# Altium schematic symbol library MMT_Diodes_LEDs.SchLib: 29 symbols
Pins are listed as number, name and electrical type; pins without a type are passive.

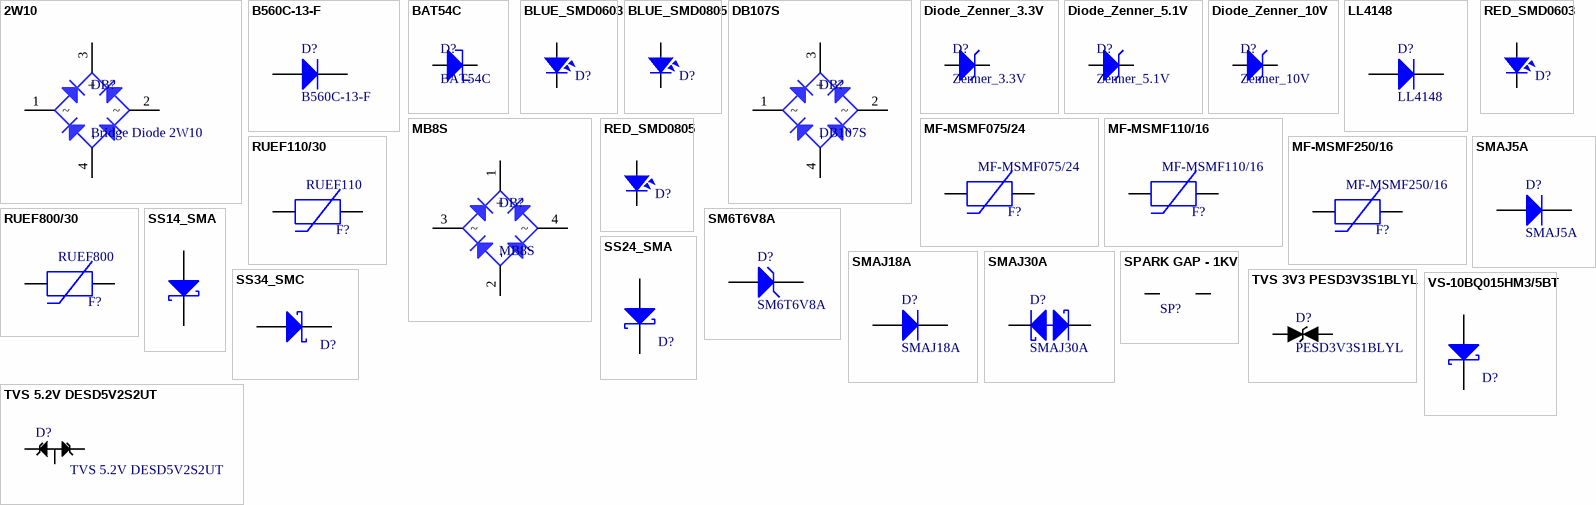
[diagram p0: symbols 2W10 to VS-10BQ015HM3/5BT]

## 2W10
designator DB?, comment Bridge Diode 2W10
Bridge Rectifiers 2A 1000V; Manufacturer: Vishay Semiconductors; Part Number: 2W10G-E4/51; Ex Price: 0.64; VN Price: 1500; Voltage/Wattage: 1000V/2A; Ex Supplier: https://www.mouser.vn/ProductDetail/Vishay-Semiconductors/2W10G-E4-51?qs=%2Fha2pyFaduiJYfkAZORi5oTk8tDZgDF1yZg%252BKYpe58k%3D; VN Supplier: https://thegioiic.com/products/2w10-cau-chinh-luu-1kv-2a
footprint 2W10
pins: 1 ~, 2 ~, 3 +, 4 -

## B560C-13-F
designator D?
Schottky Diodes & Rectifiers 60V 5A; Manufacturer: Diodes Incorporated; Ex Price: 0.55; VN Price: 5700; Voltage/Wattage: 60V/5A; Ex Supplier: https://www.mouser.vn/ProductDetail/Diodes-Incorporated/B560C-13-F?qs=OC0R%252Bhozcm%252BAsjMXklZLIw%3D%3D; VN Supplier: https://www.thegioiic.com/products/b560c-13-f-diode-schottky-5a; Part Number: B560C-13-F; Package: DO-214AB (SMC-2)
footprint DO214AB SMC (Molded Diode, 2-Leads, Body 6.85x5.90mm, IPC Medium Density)
pins: 1 A, 2 K

## BAT54C
designator D?
Schottky Diodes & Rectifiers 30V 225mW Dual Common Cathode; Manufacturer: ON Semiconductor; Part Number: BAT54CLT1G; Ex Price: 0.14; VN Price: 390; Package: SOT23-3; Ex Supplier: https://www.mouser.vn/ProductDetail/ON-Semiconductor/BAT54CLT1G?qs=sGAEpiMZZMtqO%252BWUGLBzeBLV%2FtYehzLj; VN Supplier: https://thegioiic.com/products/bat54c; Voltage/Wattage: 30V
footprint SOT23A (SOT 23A)
pins: 1, 3

## BLUE_SMD0603
designator D?, comment LED BLUE  (value not drawn)
SMD-0603 High Bright Blue Chip LED; Manufacturer: Wurth Electronics; Part Number: 150060BS75000; VN Price: 290; Value: LED BLUE 0603; Voltage/Wattage: 3.2V/20mA; Ex Price: 0.121; VN Supplier: https://thegioiic.com/products/led-xanh-duong-0603; Ex Supplier: https://www.mouser.vn/ProductDetail/Wurth-Electronics/150060BS75000?qs=sGAEpiMZZMseGfSY3csMkQ6oANueNQcInIthPVspADuLdbLnfDbXoQ%3D%3D; Package: 0603 (1608 metric)
footprint LED_SM_0603_Blue (Chip LED, 2-Leads, Body 1.6x0.8mm, IPC Medium Density)
pins: 1, 2

## BLUE_SMD0805
designator D?, comment LED BLUE  (value not drawn)
SMD-0805 High Bright Blue Chip LED; Manufacturer: Wurth Electronics; Part Number: 150080BS75000; VN Price: 230; Value: LED BLUE 0805; Voltage/Wattage: 2V/20mA; Ex Price: 0.14; VN Supplier: https://thegioiic.com/products/led-xanh-duong-0805; Ex Supplier: https://www.mouser.vn/ProductDetail/Wurth-Elektronik/150080BS75000?qs=2kOmHSv6VfT2tBo3UPVqAQ%3D%3D; Package: 0805 (2012 metric)
footprint LED-SM-0805-Blue
pins: 1, 2

## DB107S
designator DB?
Bridge Rectifiers 1A 1000V; Manufacturer: Rectron; Ex Price: 0.45; VN Price: 1290; Voltage/Wattage: 1000V/1A; Ex Supplier: https://www.mouser.vn/ProductDetail/Rectron/DB107S?qs=sGAEpiMZZMtQ8nqTKtFS%2FNgL6ac11fJuwa9%252BQN0YAg4%3D; VN Supplier: https://thegioiic.com/products/db107s-cau-chinh-luu-1kv-1a; Part Number: DB107S
footprint DB107S
pins: 1 ~, 2 ~, 3 +, 4 -

## Diode_Zenner_3.3V
designator D?, comment Zenner_3.3V
Zener Diodes 0.5W 3.3V 5%; Manufacturer: Rectron; Part Number: ZMM5226B; Ex Price: 0.1; VN Price: 190; Package: SOD-80C; Ex Supplier: https://www.mouser.vn/ProductDetail/Rectron/ZMM5226B?qs=sGAEpiMZZMtQ8nqTKtFS%2FMW1yxmDB3jlyN3AW1lvSK8%3D; VN Supplier: https://thegioiic.com/products/zmm3v3-diode-zener-3-3v-500mw-smd; Voltage/Wattage: 3.3V
footprint SOD80C
pins: 1 A, 2 K

## Diode_Zenner_5.1V
designator D?, comment Zenner_5.1V
Zener Diodes 5.1 Volt 0.5 Watt; Manufacturer: Vishay Semiconductors; Part Number: TZM5231B-GS08; Ex Price: 0.1; VN Price: 190; Tolerance: 5%; Value: Zenner 5.1V/500mW; Voltage/Wattage: 5.1V/500mW; Package: SOD-80; Ex Supplier: https://www.mouser.vn/ProductDetail/Vishay-Semiconductors/TZM5231B-GS08?qs=sGAEpiMZZMtQ8nqTKtFS%2FJrR9ou1I1aDvq0lO15%2F1Sg%3D; VN Supplier: https://thegioiic.com/products/zmm5v1-diode-zener-5-1v-500mw-smd
footprint SOD80C
pins: 1 A, 2 K

## Diode_Zenner_10V
designator D?, comment Zenner_10V
Zener Diodes 0.5W 10V 5%; Manufacturer: Rectron; Part Number: ZMM5240B; Ex Price: 0.1; VN Price: 250; Voltage/Wattage: 10V/500mW; Package: SOD-80C; Ex Supplier: https://www.mouser.vn/ProductDetail/Rectron/ZMM5226B?qs=sGAEpiMZZMtQ8nqTKtFS%2FMW1yxmDB3jlyN3AW1lvSK8%3D; VN Supplier: https://thegioiic.com/products/zmm10-diode-zener-10v-500mw-smd
footprint SOD80C
pins: 1 A, 2 K

## LL4148
designator D?
Diodes - General Purpose, Power, Switching Small Signal Diode; Manufacturer: ON Semiconductor / Fairchild; Ex Price: 0.1; VN Price: 280; Voltage/Wattage: 500mW; Ex Supplier: https://www.mouser.com/ProductDetail/ON-Semiconductor-Fairchild/LL4148?qs=sGAEpiMZZMtoHjESLttvkveAFmDTG9wNP4HmQeiQCRg%3D; VN Supplier: https://thegioiic.com/products/ll4148-diode-chinh-luu-0-2a-100v; Part Number: LL4148; Package: SOD-80
footprint SOD80C
pins: 1 A, 2 K

## MB8S
designator DB?
Bridge Rectifiers 0.5A 1000V; Manufacturer: ON Semiconductor; Ex Price: 0.46; VN Price: 700; Voltage/Wattage: 1000V/0.5A; Ex Supplier: https://www.digikey.com/product-detail/en/on-semiconductor/MB8S/MB8SCT-ND/2053104; VN Supplier: https://www.thegioiic.com/products/mb8s-cau-chinh-luu-800v-0-5a; Package: SOIC-4; Part Number: MB8S
footprint SOIC-4
pins: 1 +, 2 -, 3 ~, 4 ~

## MF-MSMF075/24
designator F?
Resettable Fuses - PPTC 0.75A 24V 0.11ohm AEC-Q200; Manufacturer: Bourns; Part Number: MF-MSMF075/24-2; VN Price: 3500; Voltage/Wattage: 24V/0.75A; Ex Price: 0.77; VN Supplier: https://thegioiic.com/products/mf-msmf075-24-2-cau-chi-tu-phuc-hoi-1812-24v-0-75a; Ex Supplier: https://www.mouser.vn/ProductDetail/Bourns/MF-MSMF075-24-2?qs=sGAEpiMZZMsxR%252BBXi4wRUEOoffeXY2tk5JGHJQzZKkw%3D; Package: 1812 (4532 metric)
footprint PTC 1812 (4532 metric)
pins: 1 A, 2 K

## MF-MSMF110/16
designator F?
Resettable Fuses - PPTC 1.1A 16V 0.04ohm AEC-Q200; Manufacturer: Bourns; Part Number: MF-MSMF110/16X-2; VN Price: 5000; Voltage/Wattage: 16V/1.1A; Ex Price: 0.5; VN Supplier: http://tme.vn/Product.aspx?id=1381; Ex Supplier: https://www.mouser.vn/ProductDetail/Bourns/MF-MSMF110-16-2?qs=sGAEpiMZZMsxR%252BBXi4wRUBaq0BDiykw2HpWrBYw33MA%3D; Package: 1812 (4532 metric)
footprint PTC 1812 (4532 metric)
pins: 1 A, 2 K

## MF-MSMF250/16
designator F?
Resettable Fuses - PPTC 2.5A 16V 0.015ohm AEC-Q200 Xpansion; Manufacturer: Bourns; Part Number: MF-MSMF250/16X-2; VN Price: 5000; Voltage/Wattage: 16V/2.5A; Ex Price: 0.67; VN Supplier: http://www.tme.vn/Product.aspx?id=1988#page=pro_info; Ex Supplier: https://www.mouser.vn/ProductDetail/Bourns/MF-MSMF250-16X-2?qs=9fn1gpisni78zr7pGyDhCQ%3D%3D; Package: 1812 (4532 metric)
footprint PTC 1812 (4532 metric)
pins: 1 A, 2 K

## RED_SMD0603
designator D?, comment LED RED  (value not drawn)
SMD-0603 High Bright Red Chip LED; Manufacturer: Wurth Electronics; Part Number: 150060RS75000; VN Price: 230; Value: LED RED 0603; Voltage/Wattage: 2V/20mA; Ex Price: 0.14; VN Supplier: https://thegioiic.com/products/led-do-0603; Ex Supplier: https://www.mouser.vn/ProductDetail/Wurth-Elektronik/150060RS75000?qs=sGAEpiMZZMseGfSY3csMkQ6oANueNQcIZZLd5sCt8%252BgHOxPA66eP1Q%3D%3D; Package: 0603 (1608 metric)
footprint LED_SM_0603_Red (Chip LED, 2-Leads, Body 1.6x0.8mm, IPC Medium Density)
pins: 1, 2

## RED_SMD0805
designator D?, comment LED RED  (value not drawn)
SMD-0805 High Bright Red Chip LED; Manufacturer: Wurth Electronics; Part Number: 150080RS75000; VN Price: 230; Value: LED RED 0805; Voltage/Wattage: 2V/20mA; Ex Price: 0.14; VN Supplier: https://thegioiic.com/products/led-do-0805; Ex Supplier: https://www.mouser.vn/ProductDetail/Wurth-Elektronik/150080RS75000?qs=sGAEpiMZZMseGfSY3csMkQ6oANueNQcIWZauLnp6GcWRTQJwjw7fdA%3D%3D; Package: 0805 (2012 metric)
footprint LED-SM-0805-Red
pins: 1, 2

## RUEF110/30
designator F?, comment RUEF110
Resettable Fuses - PPTC 1.1A 30V 0.015ohm AEC-Q200 Xpansion; VN Price: 1800; Voltage/Wattage: 1.1A/30V; VN Supplier: https://thegioiic.com/products/ruef110-cau-chi-tu-phuc-hoi-30v-1-1a
footprint PTC-FUSE (Capacitor, Ceramic, ThrNTC 2A)
pins: 1 A, 2 K

## RUEF800/30
designator F?, comment RUEF800
Resettable Fuses - PPTC 8A 30V 100A Imax; Manufacturer: Littelfuse; VN Price: 1800; Voltage/Wattage: 1.1A/30V; Ex Price: 0.81; VN Supplier: https://banlinhkien.vn/goods-11294-cau-chi-tu-phuc-hoi-8a-30v-dip-ruef800.html; Ex Supplier: https://www.mouser.vn/ProductDetail/Littelfuse/RUEF800?qs=sGAEpiMZZMsgjL4JkW1EEVNr4NcEMyYyS%2FFE7%252BEV6Ew%3D; Part Number: RUEF800; Value: RUEF800
footprint PTC-FUSE (Capacitor, Ceramic, ThrNTC 2A)
pins: 1 A, 2 K

## SM6T6V8A
designator D?
ESD Suppressors / TVS Diodes 600W 6.8V Unidirect; Manufacturer: STMicroelectronics; Ex Price: 0.47; VN Price: 900; Voltage/Wattage: 6.8V/600W; Ex Supplier: https://www.mouser.vn/ProductDetail/STMicroelectronics/SM6T6V8A?qs=sGAEpiMZZMvxHShE6Whpu%2FIqgXm9Byh79l7E4gr%2F%252B60%3D; VN Supplier: https://thegioiic.com/products/smbj6-8a; Package: DO-214AA-2 (SMB); Part Number: SM6T6V8A; Value: SM6T6V8A
footprint DO214AA SMB (Molded Diode, 2-Leads, Body 4.31x3.62mm, IPC Medium Density)
pins: 1 A, 2 K

## SMAJ5A
designator D?
ESD Suppressors / TVS Diodes 400W 5.0V 5% Uni; Manufacturer: Vishay Semiconductors; Part Number: SMAJ5.0A-E3/61; Ex Price: 0.4; VN Price: 1500; Voltage/Wattage: 5V/400W; Ex Supplier: https://www.mouser.vn/ProductDetail/Vishay-Semiconductors/SMAJ50A-E3-61?qs=sGAEpiMZZMsYCk4rqFpP%2FdYs38iRTf4j; VN Supplier: https://thegioiic.com/products/smaj5-0a; Package: DO214AC SMA
footprint DO214AC SMA (Molded Diode, 2-Leads, Body 4.30x2.60mm, IPC Medium Density)
pins: 1 A, 2 K

## SMAJ18A
designator D?
ESD Suppressors / TVS Diodes 400W 18V 5% Uni; Manufacturer: Vishay Semiconductors; Part Number: SMAJ18A-E3/61; Ex Price: 0.38; VN Price: 2600; Voltage/Wattage: 18V/400W; Ex Supplier: https://www.mouser.vn/ProductDetail/Vishay-Semiconductors/SMAJ18A-E3-61?qs=sGAEpiMZZMsYCk4rqFpP%2Ffk4gugt8iuV; VN Supplier: https://thegioiic.com/products/smaj18a; Package: DO214AC SMA
footprint DO214AC SMA (Molded Diode, 2-Leads, Body 4.30x2.60mm, IPC Medium Density)
pins: 1 A, 2 K

## SMAJ30A
designator D?
ESD Suppressors / TVS Diodes 400W 30V 5% Uni-Directional; Manufacturer: Vishay Semiconductors; Part Number: SMAJ18A-E3/61; Ex Price: 0.47; Voltage/Wattage: 30V/400W; Ex Supplier: https://www.mouser.vn/ProductDetail/Littelfuse/SMAJ30A?qs=JJML70Qc14tOmIOtllb78g==; Package: DO214AC SMA
footprint DO214AC SMA (Molded Diode, 2-Leads, Body 4.30x2.60mm, IPC Medium Density)
pins: 1 K1, 2 K2

## SPARK GAP - 1KV
designator SP?, comment SPARK GAP 1KV  (value not drawn)
footprint SPARK GAP - 1KV
pins: 1, 2

## SS14_SMA
designator ?, comment SS14  (value not drawn)
DIODE SCHOTTKY 1A 40V SMA; Manufacturer: ON Semiconductor / Fairchild; VN Price: 480; Voltage/Wattage: 40V/1A; Ex Price: 0.135; VN Supplier: https://thegioiic.com/products/ss14-sma; Ex Supplier: https://www.mouser.vn/ProductDetail/ON-Semiconductor-Fairchild/SS14?qs=sGAEpiMZZMtQ8nqTKtFS%2FCJFZUIIOyzjW78s3%2F1KLHo%3D; Part Number: SS14; Package: SMA (DO-214AC); Value: SS14
footprint DO214AC SMA (Molded Diode, 2-Leads, Body 4.30x2.60mm, IPC Medium Density)
pins: 1 A, 2 K

## SS24_SMA
designator D?, comment SS24  (value not drawn)
DIODE SCHOTTKY 2A 40V SMA; Manufacturer: Guangdong Hottech; VN Price: 800; Voltage/Wattage: 40V/2A; Ex Price: 0.017; VN Supplier: https://www.thegioiic.com/products/ss24-sma; Ex Supplier: https://lcsc.com/product-detail/Schottky-Barrier-Diodes-SBD_SS24-35MIL_C181203.html; Part Number: SS24; Package: SMA (DO-214AC); Value: SS24
footprint DO214AC SMA (Molded Diode, 2-Leads, Body 4.30x2.60mm, IPC Medium Density)
pins: 1 A, 2 K

## SS34_SMC
designator D?, comment SS34  (value not drawn)
DIODE SCHOTTKY 3A 40V SMC; Manufacturer: ON Semiconductor / Fairchild; VN Price: 1800; Voltage/Wattage: 40V/3A; Ex Price: 0.307; VN Supplier: https://thegioiic.com/products/ss34-smc; Ex Supplier: https://www.mouser.vn/ProductDetail/ON-Semiconductor-Fairchild/SS34?qs=sGAEpiMZZMtQ8nqTKtFS%2FCJFZUIIOyzj6O9aShKlA3g%3D; Part Number: SS34; Package: SMC (DO-214AB); Value: SS34
footprint DO214AB SMC (Molded Diode, 2-Leads, Body 6.85x5.90mm, IPC Medium Density)
pins: 1 A, 2 K

## TVS 3V3 PESD3V3S1BLYL
designator D?, comment PESD3V3S1BLYL
ESD Suppressors / TVS Diodes Low capacitance bidirectional ESD protection diode; Manufacturer: Nexperia; Ex Price: 0.061; Voltage/Wattage: 3V3; Part Number: PESD3V3S1BLYL; Ex Supplier: https://www.mouser.vn/ProductDetail/771-PESD3V3S1BLYL; Package: DFN-1006-2
footprint SOD882
pins: 1, 2

## TVS 5.2V DESD5V2S2UT
designator D?
UNIDIRECTIONAL SURFACE MOUNT TVS 5.2V 260W; Manufacturer: Diodes Incorporated; Ex Price: 0.42; Part Number: Diodes Incorporated; Package: SOT-23-3; Ex Supplier: https://www.mouser.vn/ProductDetail/Diodes-Incorporated/DESD5V2S2UT-7?qs=%2Fha2pyFaduhv%252ByVY30zOvYvCjJkcjjO1tkw9d%2FmpkQ%2F0m7zUAhD43A%3D%3D; Voltage/Wattage: 5.2V
footprint SOT23-3 (SOT 23 _ 1-2-3)
pins: 1, 2, 3

## VS-10BQ015HM3/5BT
designator D?  (value not drawn)
Schottky Diodes & Rectifiers Schottky - SMB-e3; Manufacturer: Vishay Semiconductors; Voltage/Wattage: 15V/1A; Ex Price: 0.53; Ex Supplier: https://www.mouser.vn/ProductDetail/Vishay-Semiconductors/VS-10BQ015HM3-5BT?qs=sGAEpiMZZMtQ8nqTKtFS%2FNjtHDypooxhcyYiJ63E9E2qOT61GfUEaA%3D%3D; Part Number: VS-10BQ015HM3/5BT; Package: SMB; Value: VS-10BQ015HM3/5BT
footprint DO214AA SMB (Molded Diode, 2-Leads, Body 4.31x3.62mm, IPC Medium Density)
pins: 1 A, 2 K